# Altium footprint library PCB - POWER INDUCTORS - BOURNS SRR1280.PCBLIB: 1 footprints
Each footprint in its own frame and in the unit in brackets; x right, y up, seen from the top. Pads: shape width x height; smd on the part's side, far side on the other; paste and mask are expansions set on the pad; w line width, h text height; cw(c..) or ccw(c..) is an arc to the next point about the centre after c.
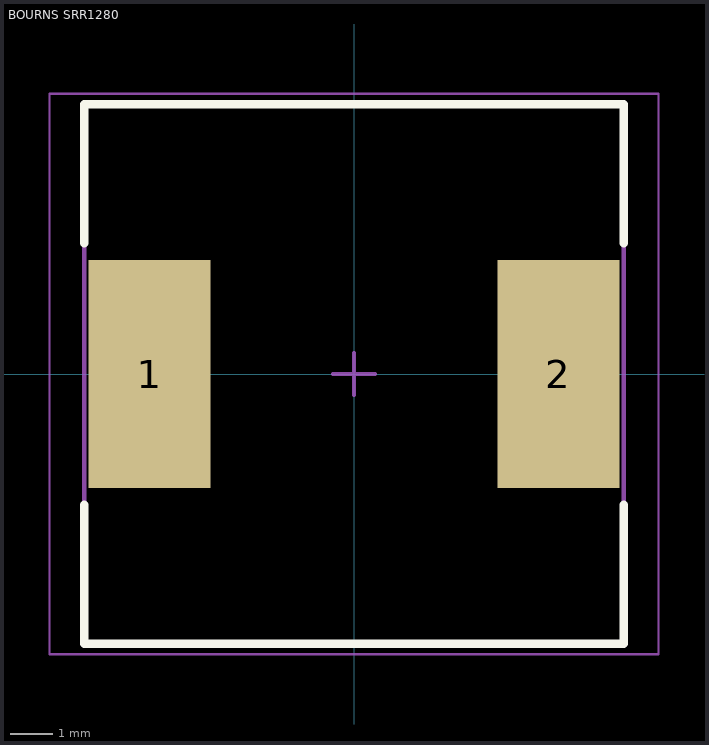
[diagram p0: the footprint, top view; thin cyan lines are the x and y axes]

## BOURNS SRR1280 [mm] "Precision Wire Wound Inductor, 2-Leads, Body 12.50x12.50mm, IPC Medium Density"
height 8
pads (2):
  rect 2.9x5.4 smd: 1(-4.85,0) 2(4.85,0)
Top Overlay:
  lines w0.2: -6.4,-3.1 -6.4,-6.4 6.4,-6.4 6.4,-3.1 ; -6.4,3.1 -6.4,6.4 6.4,6.4 6.4,3.1
Mechanical 13:
  lines w0.1: -6.4,-6.4 6.4,-6.4 6.4,6.4 -6.4,6.4 -6.4,-6.4
Mechanical 15:
  lines w0.05: -7.225,-6.65 7.225,-6.65 7.225,6.65 -7.225,6.65 -7.225,-6.65
  lines w0.1: -0.5,0 0.5,0 ; 0,-0.5 0,0.5
3D body "SRR1280.STEP": height 7.9, standoff 0, extent -6.25,-6.25 6.25,6.25